# Altium footprint library tyco-rf.PcbLib: 2 footprints
Each footprint in its own frame and in the unit in brackets; x right, y up, seen from the top. Pads: shape width x height; smd on the part's side, far side on the other; paste and mask are expansions set on the pad; w line width, h text height; cw(c..) or ccw(c..) is an arc to the next point about the centre after c.
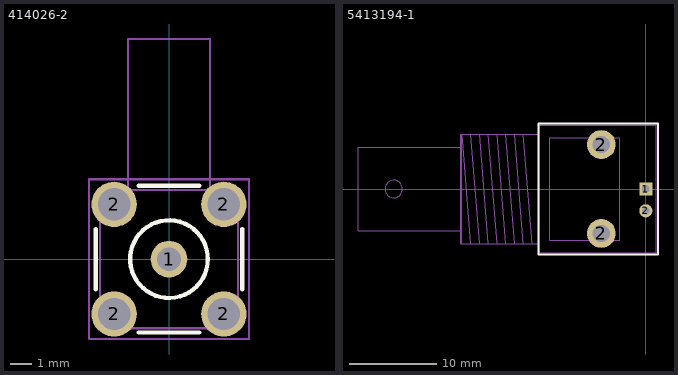
[diagram p0: the footprints below, top view; thin cyan lines are the x and y axes]

## 414026-2 [mm] "Connector; SMB Right Angle"
height 7.87
pads (5):
  round 1.7 hole 1.1: 1(0,0)
  round 2.1 hole 1.5: 2(-2.54,-2.54) 2(-2.54,2.54) 2(2.54,-2.54) 2(2.54,2.54)
Top Overlay:
  circle w0.2: c0,0 r1.8
  lines w0.2: -3.4,-1.4 -3.4,1.4 ; -1.4,-3.4 1.4,-3.4 ; -1.4,3.4 1.4,3.4 ; 3.4,-1.4 3.4,1.4
Mechanical 1:
  circle w0.025: c0,0 r1.8
  circle w0.025: c0,0 r0.2
Mechanical 13:
  lines w0.1: -1.9,3.2 -1.9,10.2 1.9,10.2 1.9,3.2 ; -0.5,0 0.5,0 ; 0,-0.5 0,0.5 ; -3.2,-3.2 3.2,-3.2 3.2,3.2 -3.2,3.2 -3.2,-3.2
Mechanical 15:
  lines w0.1: -3.7,-3.7 -3.7,3.7 3.7,3.7 3.7,-3.7 -3.7,-3.7
  text ".Designator" at -1.6,-1.4 h0.5
3D body: height 8.73, standoff -3.92, extent -3.175,-3.2 3.175,10.186

## 5413194-1 [mm] "Connector; BNC Elbow"
pads (4):
  rect 1.5x1.5 hole 0.9: 1(0,0)
  round 3.3 hole 2: 2(-5.1,-5.1) 2(-5.1,5.1)
  round 1.5 hole 0.9: 2(0,-2.5)
Top Overlay:
  lines w0.2: -12.3,-7.5 1.4,-7.5 1.4,7.5 -12.3,7.5 -12.3,-7.5
Mechanical 13:
  circle w0.1: c-28.9,0 r1
  lines w0.1: -20.1,-6.25 -21.1,6.25 ; -20.1,6.25 -19.1,-6.25 ; -19.1,6.25 -18.1,-6.25 ; -18.1,6.25 -17.1,-6.25 ; -17.1,6.25 -16.1,-6.25 ; -16.1,6.25 -15.1,-6.25 ; -15.1,6.25 -14.1,-6.25 ; -14.1,6.25 -13.1,-6.25 ; -0.5,0 0.5,0 ; 0,-0.5 0,0.5 ; -33,-4.8 -33,4.8 ; -33,-4.8 -21.1,-4.8 ; -33,-4.8 -33,4.8 ; -33,-4.8 -21.1,-4.8 ; -33,4.8 -21.1,4.8 ; -33,4.8 -21.1,4.8 ; -21.1,-6.25 -12.2,-6.25 ; -21.1,-6.25 -21.1,-4.8 ; -21.1,-6.25 -21.1,-4.8 ; -21.1,-6.25 -12.2,-6.25 ; -21.1,-4.8 -21.1,4.8 ; -21.1,-4.8 -21.1,4.8 ; -21.1,4.8 -21.1,6.25 ; -21.1,4.8 -21.1,6.25 ; -21.1,6.25 -12.2,6.25 ; -21.1,6.25 -12.2,6.25 ; -12.2,-6.25 -12.2,6.25 ; -12.2,-6.25 -12.2,6.25 ; -12.2,-6.25 -12.2,-7.3 1.2,-7.3 1.2,7.3 -12.2,7.3 -12.2,6.25 ; -11,-5.9 -3,-5.9 -3,5.9 -11,5.9 -11,-5.9
Mechanical 15:
  lines w0.1: -12.3,-6.3 -21.2,-6.3 -21.2,6.3 -12.3,6.3 ; -12.3,-7.5 -12.3,7.5 1.4,7.5 1.4,-7.5 -12.3,-7.5
  text ".Designator" at -2.25,-2.25 h0.5
3D body: height 13.18, standoff -4.11, extent -33.663,-7.379 1.262,7.379